# EAGLE library part LT1764AEQ (library linear-technology)
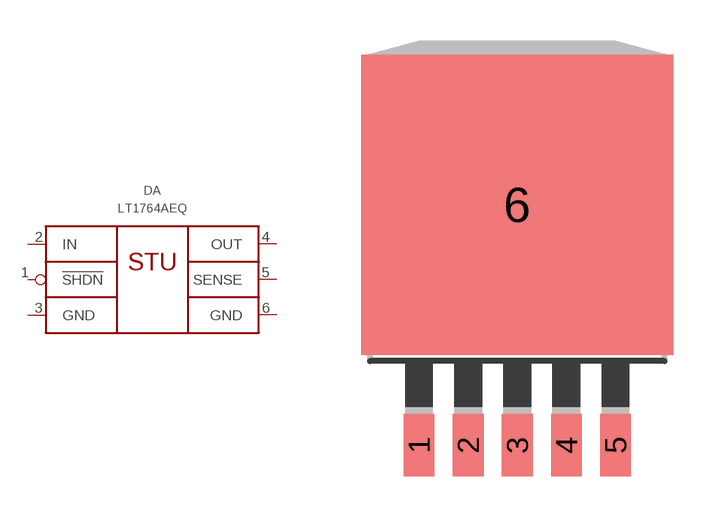
[diagram p11: symbol with the pads of TO263-5; footprint TO263-5]

Designator prefix DA

## LT1764AEQ  [TO263-5]
1  !SHDN  in
2  IN  pwr
3  GND  pwr
4  OUT  pwr
5  SENSE  pas
6  GND  pwr

## LT1764AEQ-1.5  [TO263-5]
Pads as for TO263-5

## LT1764AEQ-1.8  [TO263-5]
Pads as for TO263-5

## LT1764AEQ-2.5  [TO263-5]
Pads as for TO263-5

## LT1764AEQ-3.3  [TO263-5]
Pads as for TO263-5

## Footprint TO263-5 (pad centres in mm)
TO-263
smd 1.067 x 2.159: 1 -3.404,-5.791; 2 -1.702,-5.791; 3 0,-5.791; 4 1.702,-5.791; 5 3.404,-5.791
smd 10.8 x 10.41: 6 0,2.54